# Altium footprint library footprints.PcbLib: 160 footprints (part 9 of 10)
Each footprint in its own frame and in the unit in brackets; x right, y up, seen from the top. Pads: shape width x height; smd on the part's side, far side on the other; paste and mask are expansions set on the pad; w line width, h text height; cw(c..) or ccw(c..) is an arc to the next point about the centre after c.
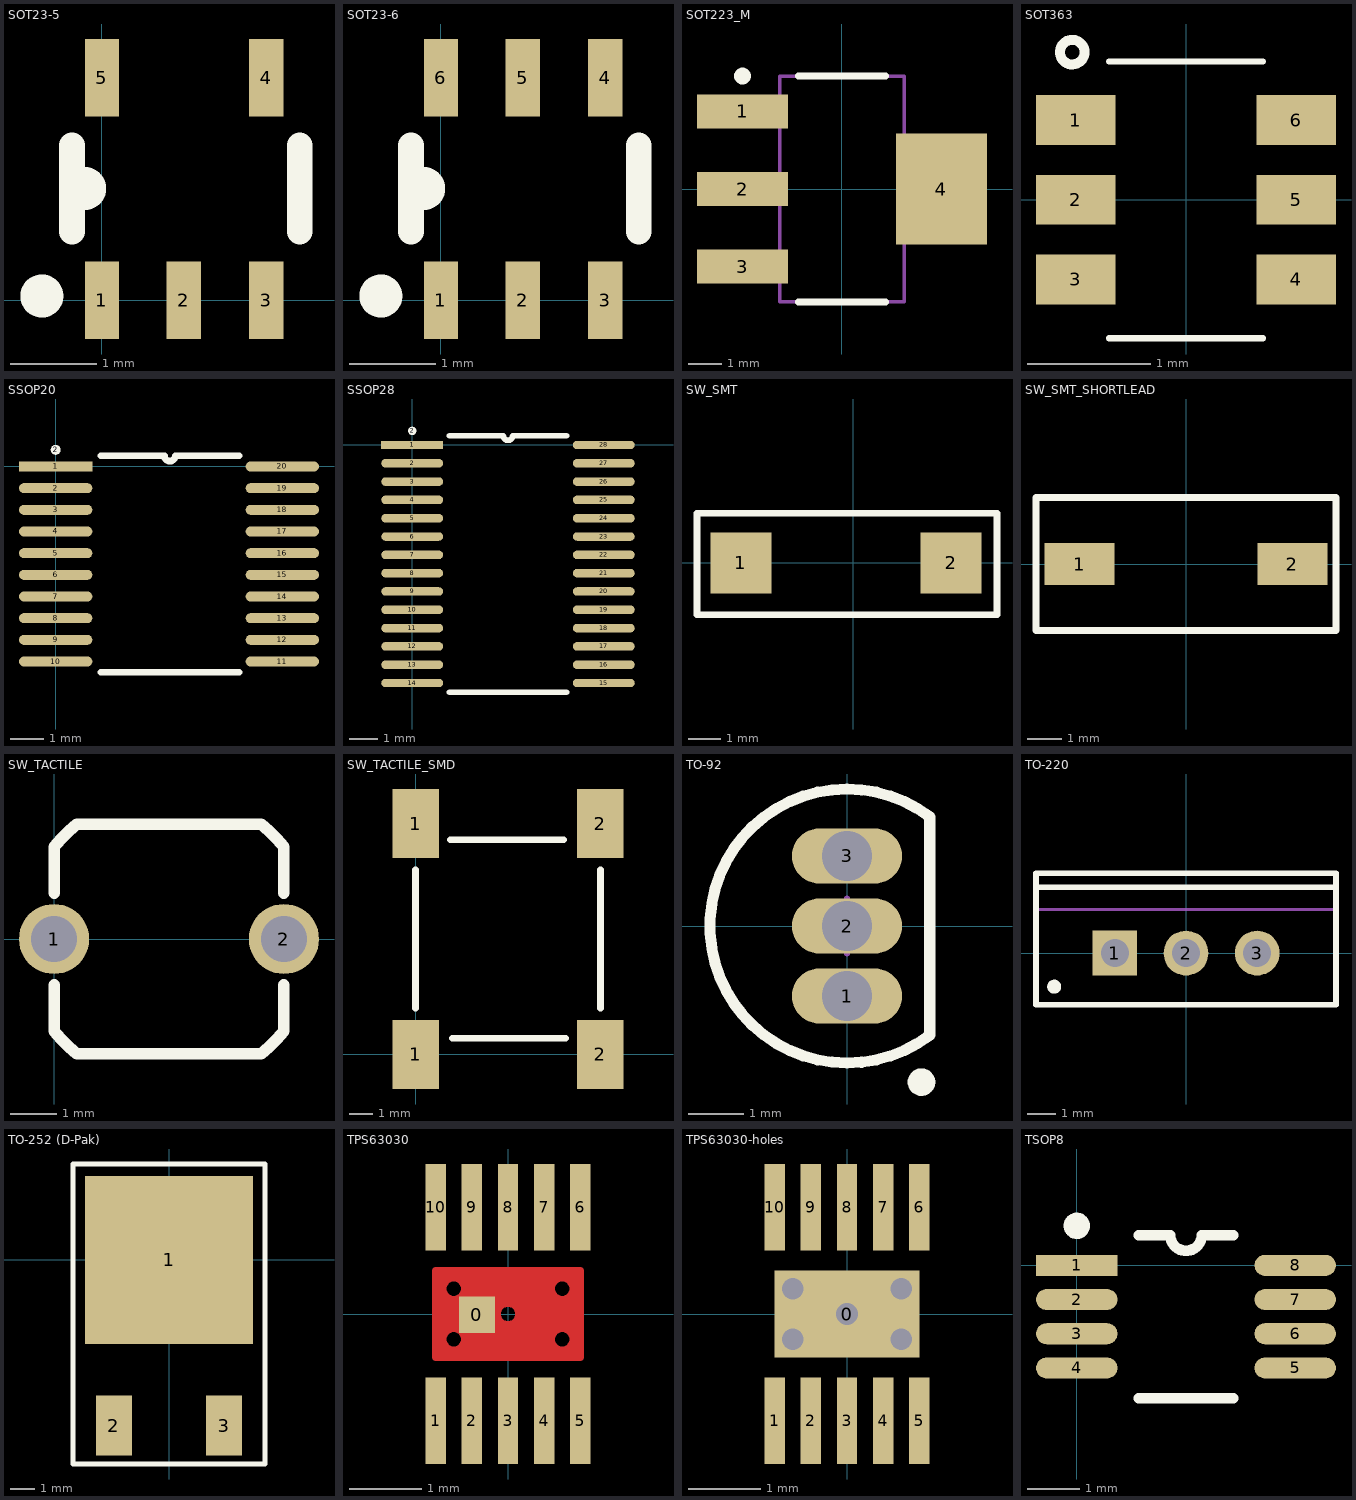
[diagram p8: the footprints below, top view; thin cyan lines are the x and y axes]

## SOT23-5 [mm]
pads (5):
  rect 0.4x0.9 smd: 1(0,0) 2(0.953,0) 3(1.91,0) 4(1.91,2.59) 5(0,2.59)
Top Overlay:
  circle w0.3: c-0.7,0.05 r0.1
  lines w0.3: -0.35,0.8 -0.35,1.8 ; -0.2,1.2 ccw(c-0.2,1.3) -0.2,1.4 ; 2.3,0.8 2.3,1.8

## SOT23-6 [mm]
height 1.45
pads (6):
  rect 0.4x0.9 smd: 1(0,0) 2(0.953,0) 3(1.91,0) 4(1.91,2.59) 5(0.953,2.59) 6(0,2.59)
Top Overlay:
  circle w0.3: c-0.7,0.05 r0.1
  lines w0.3: -0.35,0.8 -0.35,1.8 ; -0.2,1.2 ccw(c-0.2,1.3) -0.2,1.4 ; 2.3,0.8 2.3,1.8

## SOT223_M [mm] "SOT223, 4-Leads, Body 6.5x3.5mm, Pitch 2.3mm, Lead Span 7mm, IPC Low Density"
height 1.7
pads (4):
  rect 2.7x1 smd: 1(-2.95,2.3) 2(-2.95,0) 3(-2.95,-2.3)
  rect 2.7x3.3 smd: 4(2.95,0)
Top Overlay:
  circle w0.25: c-2.95,3.35 r0.125
  lines w0.2: -1.3,-3.35 1.3,-3.35 ; -1.3,3.35 1.3,3.35
Mechanical 13:
  lines w0.1: -1.85,-3.35 -1.85,3.35 1.85,3.35 1.85,-3.35 -1.85,-3.35
3D body: height 1.7, standoff 0, extent -1.85,-3.35 1.85,3.35

## SOT363 [mm]
pads (6):
  rect 0.648x0.406 smd mask+0.051: 1(-0.895,0.648) 2(-0.895,0) 3(-0.895,-0.648) 4(0.895,-0.648) 5(0.895,0) 6(0.895,0.648)
Top Overlay:
  circle w0.081: c-0.925,1.2 r0.1
  lines w0.051: -0.625,-1.125 0.625,-1.125 ; -0.625,1.125 0.625,1.125
3D body: height 1, standoff 0, extent -1.15,-1.05 1.15,1.05

## SSOP20 [mm]
pads (21):
  rect 2.2x0.3 smd: 1(0,0)
  oval 2.2x0.3 smd: 2(0,-0.65) 3(0,-1.3) 4(0,-1.95) 5(0,-2.6) 6(0,-3.25) 7(0,-3.9) 8(0,-4.55) 9(0,-5.2) 10(0,-5.85) 11(6.8,-5.85) 12(6.8,-5.2) 13(6.8,-4.55) 14(6.8,-3.9) 15(6.8,-3.25) 16(6.8,-2.6) 17(6.8,-1.95) 18(6.8,-1.3) 19(6.8,-0.65) 20(6.8,0)
  round 0.3 on Top Overlay paste+0: 2(0,0.5)
Top Overlay:
  lines w0.2: 1.35,-6.175 5.5,-6.175 ; 1.35,0.325 3.263,0.325 ccw(c3.425,0.325) 3.587,0.325 5.5,0.325

## SSOP28 [mm]
pads (29):
  rect 2.2x0.3 smd: 1(0,0)
  oval 2.2x0.3 smd: 2(0,-0.65) 3(0,-1.3) 4(0,-1.95) 5(0,-2.6) 6(0,-3.25) 7(0,-3.9) 8(0,-4.55) 9(0,-5.2) 10(0,-5.85) 11(0,-6.5) 12(0,-7.15) 13(0,-7.8) 14(0,-8.45) 15(6.8,-8.45) 16(6.8,-7.8) 17(6.8,-7.15) 18(6.8,-6.5) 19(6.8,-5.85) 20(6.8,-5.2) 21(6.8,-4.55) 22(6.8,-3.9) 23(6.8,-3.25) 24(6.8,-2.6) 25(6.8,-1.95) 26(6.8,-1.3) 27(6.8,-0.65) 28(6.8,0)
  round 0.3 on Top Overlay paste+0: 2(0,0.5)
Top Overlay:
  lines w0.2: 1.325,-8.775 5.475,-8.775 ; 1.325,0.325 3.237,0.325 ccw(c3.4,0.325) 3.562,0.325 5.475,0.325

## SW_SMT [mm]
pads (2):
  rect 1.85x1.85 smd: 1(-3.422,0) 2(2.978,0)
Top Overlay:
  lines w0.2: -4.762,-1.581 -4.762,1.519 4.378,1.519 4.378,-1.581 -4.762,-1.581

## SW_SMT_SHORTLEAD [mm] "For CKN9076CT-ND"
pads (2):
  rect 2x1.2 smd: 1(-3.05,0) 2(3.05,0)
Top Overlay:
  lines w0.2: -4.3,-1.9 4.3,-1.9 4.3,1.9 -4.3,1.9 -4.3,-1.9

## SW_TACTILE [mil]
pads (2):
  round 60 hole 39.37: 1(0,0) 2(196.85,0)
Top Overlay:
  lines w10: 0.05,-39.37 0.05,-78.7 ccw(c98.43,0) 19.72,-98.38 177.13,-98.38 ccw(c98.43,0) 196.8,-78.7 196.8,-39.37 ; 0.05,39.37 0.05,78.7 cw(c98.43,0) 19.72,98.38 177.13,98.38 cw(c98.43,0) 196.8,78.7 196.8,39.37

## SW_TACTILE_SMD [mm]
pads (4):
  rect 2x3 smd: 1(0,0) 1(0,10) 2(8,0) 2(8,10)
Top Overlay:
  lines w0.3: 0,2 0,8 ; 1.5,9.3 6.4,9.3 ; 1.6,0.7 6.5,0.7 ; 8,2 8,8

## TO-92 [mm] "TO, Flat Index; 3 In-Line, Axial Leads; Body Dia. 4.5mm; Leads 0.51 x 0.48 mm (max)"
height 6.86
pads (3):
  oval 2x1 hole 0.9: 1(0,-1.27) 2(0,0) 3(0,1.27)
Top Overlay:
  circle w0.25: c1.35,-2.83 r0.125
  lines w0.2: 1.5,-1.98 cw(c0,0) 1.5,1.98 1.5,-1.98
Mechanical 13:
  lines w0.1: 1.5,-1.98 cw(c0,0) 1.5,1.98 1.5,-1.98
Mechanical 15:
  lines w0.1: -0.5,0 0.5,0 ; 0,-0.5 0,0.5
3D body: height 6.86, standoff 2.2, extent -2.497,-2.497 1.501,2.497

## TO-220 [mm] "TO, Thru-Hole, Vertical, Heatsink Mounted; 3 In-Line Leads; Pitch 2.54 mm"
height 19.3
pads (3):
  rect 1.6x1.6 hole 1: 1(-2.54,0)
  round 1.6 hole 1: 2(0,0) 3(2.54,0)
Top Overlay:
  circle w0.25: c-4.7,-1.2 r0.125
  lines w0.2: -5.35,2.35 5.35,2.35 ; -5.35,-1.85 5.35,-1.85 5.35,2.85 -5.35,2.85 -5.35,-1.85
Mechanical 13:
  lines w0.1: -5.35,1.55 5.35,1.55 ; -5.35,-1.85 -5.35,2.85 5.35,2.85 5.35,-1.85 -5.35,-1.85
Mechanical 15:
  lines w0.1: -0.5,0 0.5,0 ; 0,-0.5 0,0.5
3D body: height 19.3, standoff 12.9, extent -5.349,1.551 5.349,2.849
3D body: height 12.9, standoff 4, extent -5.4,-1.9 5.4,2.9

## TO-252 (D-Pak) [mm]
pads (3):
  rect 7x7 smd: 1(0,0)
  rect 1.5x2.5 smd: 2(-2.3,-6.9) 3(2.3,-6.9)
Top Overlay:
  lines w0.2: -4,-8.5 4,-8.5 4,4 -4,4 -4,-8.5

## TPS63030 [mm]
pads (11):
  rect 0.5x0.5 smd mask+0: 0(-0.43,-0.01)
  rect 0.28x1.2 smd mask+0.07: 1(-1,-1.475) 2(-0.5,-1.475) 3(0,-1.475) 4(0.5,-1.475) 5(1,-1.475) 6(1,1.475) 7(0.5,1.475) 8(0,1.475) 9(-0.5,1.475) 10(-1,1.475)
Top Layer:
  region: -1,-0.35 -1,-0.6 1,-0.6 1,-0.35 0.912,-0.35 0.865,-0.465 0.75,-0.512 0.635,-0.465 0.588,-0.35 0.6,-0.35 -0.588,-0.35 -0.635,-0.465 -0.75,-0.512 -0.865,-0.465 -0.912,-0.35 -0.9,-0.35
  region: -1,0 -1,-0.35 -0.912,-0.35 -0.865,-0.235 -0.75,-0.188 -0.635,-0.235 -0.588,-0.35 -0.6,-0.35 0.588,-0.35 0.635,-0.235 0.75,-0.188 0.865,-0.235 0.912,-0.35 0.9,-0.35 1,-0.35 1,0 0.162,0 0.115,-0.115 0,-0.162 -0.115,-0.115 -0.162,0 -0.15,0
  region: -1,0 -1,0.35 -0.912,0.35 -0.865,0.235 -0.75,0.188 -0.635,0.235 -0.588,0.35 -0.6,0.35 0.588,0.35 0.635,0.235 0.75,0.188 0.865,0.235 0.912,0.35 0.9,0.35 1,0.35 1,0 0.162,0 0.115,0.115 0,0.162 -0.115,0.115 -0.162,0 -0.15,0
  region: -1,0.35 -1,0.6 1,0.6 1,0.35 0.912,0.35 0.865,0.465 0.75,0.512 0.635,0.465 0.588,0.35 0.6,0.35 -0.588,0.35 -0.635,0.465 -0.75,0.512 -0.865,0.465 -0.912,0.35 -0.9,0.35
  lines w0.1: -1,-0.35 -0.9,-0.35 ; -1,-0.35 -1,-0.6 1,-0.6 1,-0.35 ; -1,-0.35 -0.9,-0.35 ; -1,-0.35 -1,0 ; -1,0 -0.15,0 ; -1,0 -1,0.35 ; -1,0 -0.15,0 ; -1,0.35 -0.9,0.35 ; -1,0.35 -1,0.6 1,0.6 1,0.35 ; -1,0.35 -0.9,0.35 ; -0.9,-0.35 ccw(c-0.75,-0.35) -0.75,-0.5 ccw(c-0.75,-0.35) -0.6,-0.35 ; -0.9,-0.35 cw(c-0.75,-0.35) -0.75,-0.2 cw(c-0.75,-0.35) -0.6,-0.35 ; -0.9,0.35 ccw(c-0.75,0.35) -0.75,0.2 ccw(c-0.75,0.35) -0.6,0.35 ; -0.9,0.35 cw(c-0.75,0.35) -0.75,0.5 cw(c-0.75,0.35) -0.6,0.35 ; -0.6,-0.35 0.6,-0.35 ; -0.6,-0.35 0.6,-0.35 ; -0.6,0.35 0.6,0.35 ; -0.6,0.35 0.6,0.35 ; -0.15,0 ccw(c0,0) 0,-0.15 ccw(c0,0) 0.15,0 ; -0.15,0 cw(c0,0) 0,0.15 cw(c0,0) 0.15,0 ; 0.15,0 1,0 ; 0.15,0 1,0 ; 0.15,0 1,0 ; 0.15,0 1,0 ; 0.6,-0.35 ccw(c0.75,-0.35) 0.75,-0.5 ccw(c0.75,-0.35) 0.9,-0.35 ; 0.6,-0.35 cw(c0.75,-0.35) 0.75,-0.2 cw(c0.75,-0.35) 0.9,-0.35 ; 0.6,0.35 ccw(c0.75,0.35) 0.75,0.2 ccw(c0.75,0.35) 0.9,0.35 ; 0.6,0.35 cw(c0.75,0.35) 0.75,0.5 cw(c0.75,0.35) 0.9,0.35 ; 0.9,-0.35 1,-0.35 ; 0.9,-0.35 1,-0.35 ; 0.9,-0.35 1,-0.35 ; 0.9,-0.35 1,-0.35 ; 0.9,0.35 1,0.35 ; 0.9,0.35 1,0.35 ; 0.9,0.35 1,0.35 ; 0.9,0.35 1,0.35 ; 1,-0.35 1,0 ; 1,0 1,0.35
Top Paste:
  region: -1,-0.35 -1,-0.6 1,-0.6 1,-0.35 0.912,-0.35 0.865,-0.465 0.75,-0.512 0.635,-0.465 0.588,-0.35 0.6,-0.35 -0.588,-0.35 -0.635,-0.465 -0.75,-0.512 -0.865,-0.465 -0.912,-0.35 -0.9,-0.35
  region: -1,0 -1,-0.35 -0.912,-0.35 -0.865,-0.235 -0.75,-0.188 -0.635,-0.235 -0.588,-0.35 -0.6,-0.35 0.588,-0.35 0.635,-0.235 0.75,-0.188 0.865,-0.235 0.912,-0.35 0.9,-0.35 1,-0.35 1,0 0.162,0 0.115,-0.115 0,-0.162 -0.115,-0.115 -0.162,0 -0.15,0
  region: -1,0.35 -1,0.6 1,0.6 1,0.35 0.912,0.35 0.865,0.465 0.75,0.512 0.635,0.465 0.588,0.35 0.6,0.35 -0.588,0.35 -0.635,0.465 -0.75,0.512 -0.865,0.465 -0.912,0.35 -0.9,0.35
  region: -1,0 -1,0.35 -0.912,0.35 -0.865,0.235 -0.75,0.188 -0.635,0.235 -0.588,0.35 -0.6,0.35 0.588,0.35 0.635,0.235 0.75,0.188 0.865,0.235 0.912,0.35 0.9,0.35 1,0.35 1,0 0.162,0 0.115,0.115 0,0.162 -0.115,0.115 -0.162,0 -0.15,0
  lines w0.1: -1,-0.35 -1,0 ; -1,-0.35 -1,-0.6 1,-0.6 1,-0.35 1,0 1,0.35 1,0.6 -1,0.6 -1,0.35 ; -1,-0.35 -0.9,-0.35 ; -1,-0.35 -0.9,-0.35 ; -1,0 -1,0.35 ; -1,0 -0.15,0 ; -1,0 -0.15,0 ; -1,0.35 -0.9,0.35 ; -1,0.35 -0.9,0.35 ; -0.9,-0.35 cw(c-0.75,-0.35) -0.75,-0.2 cw(c-0.75,-0.35) -0.6,-0.35 ; -0.9,-0.35 ccw(c-0.75,-0.35) -0.75,-0.5 ccw(c-0.75,-0.35) -0.6,-0.35 ; -0.9,0.35 cw(c-0.75,0.35) -0.75,0.5 cw(c-0.75,0.35) -0.6,0.35 ; -0.9,0.35 ccw(c-0.75,0.35) -0.75,0.2 ccw(c-0.75,0.35) -0.6,0.35 ; -0.6,-0.35 0.6,-0.35 ; -0.6,-0.35 0.6,-0.35 ; -0.6,0.35 0.6,0.35 ; -0.6,0.35 0.6,0.35 ; -0.15,0 cw(c0,0) 0,0.15 cw(c0,0) 0.15,0 cw(c0,0) 0,-0.15 cw(c0,0) -0.15,0 ; 0.6,-0.35 cw(c0.75,-0.35) 0.75,-0.2 cw(c0.75,-0.35) 0.9,-0.35 cw(c0.75,-0.35) 0.75,-0.5 cw(c0.75,-0.35) 0.6,-0.35 ; 0.6,0.35 cw(c0.75,0.35) 0.75,0.5 cw(c0.75,0.35) 0.9,0.35 cw(c0.75,0.35) 0.75,0.2 cw(c0.75,0.35) 0.6,0.35
Top Solder:
  rectangle: -1.07,-0.67 1.07,0.67

## TPS63030-holes [mm]
pads (11):
  rect 2x1.2 smd: 0(0,0)
  rect 0.28x1.2 smd mask+0.07: 1(-1,-1.475) 2(-0.5,-1.475) 3(0,-1.475) 4(0.5,-1.475) 5(1,-1.475) 6(1,1.475) 7(0.5,1.475) 8(0,1.475) 9(-0.5,1.475) 10(-1,1.475)
via -0.75,-0.35 diameter 0.5 hole 0.3
via 0.75,-0.35 diameter 0.5 hole 0.3
via 0.75,0.35 diameter 0.5 hole 0.3
via 0,0 diameter 0.5 hole 0.3
via -0.75,0.35 diameter 0.5 hole 0.3

## TSOP8 [mm]
pads (8):
  rect 1.55x0.4 smd: 1(0,0)
  oval 1.55x0.4 smd: 2(0,-0.65) 3(0,-1.3) 4(0,-1.95) 5(4.15,-1.95) 6(4.15,-1.3) 7(4.15,-0.65) 8(4.15,0)
Top Overlay:
  circle w0.25: c0,0.75 r0.125
  lines w0.2: 1.175,-2.525 2.975,-2.525 ; 1.175,0.575 1.775,0.575 ccw(c2.075,0.575) 2.375,0.575 2.975,0.575